# EAGLE library part MPC17529 (library AMH)
Dual h-bridge
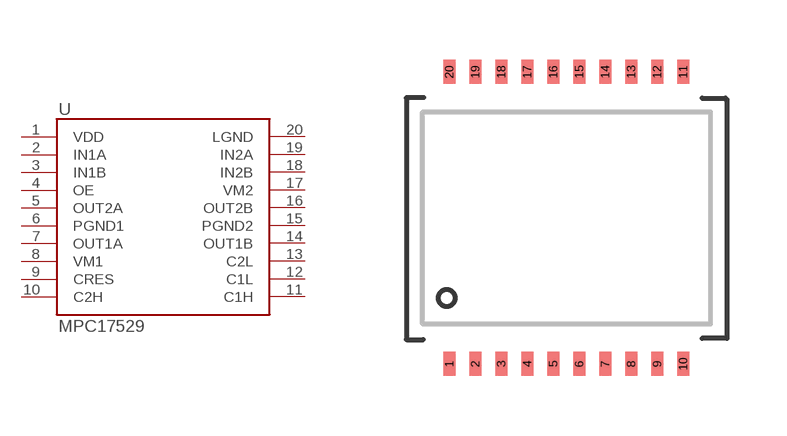
[diagram p0: symbol with the pads of 20-T_VMFP; footprint 20-T_VMFP]

Designator prefix -

## MPC17529  [20-T_VMFP]
1  VDD
2  IN1A
3  IN1B
4  OE
5  OUT2A
6  PGND1
7  OUT1A
8  VM1
9  CRES
10  C2H
11  C1H
12  C1L
13  C2L
14  OUT1B
15  PGND2
16  OUT2B
17  VM2
18  IN2B
19  IN2A
20  LGND

## Footprint 20-T_VMFP (pad centres in mm)
smd 0.3 x 0.6: 1 -2.925,-3.65; 2 -2.275,-3.65; 3 -1.625,-3.65; 4 -0.975,-3.65; 5 -0.325,-3.65; 6 0.325,-3.65; 7 0.975,-3.65; 8 1.625,-3.65; 9 2.275,-3.65; 10 2.925,-3.65; 11 2.925,3.65; 12 2.275,3.65; 13 1.625,3.65; 14 0.975,3.65; 15 0.325,3.65; 16 -0.325,3.65; 17 -0.975,3.65; 18 -1.625,3.65; 19 -2.275,3.65; 20 -2.925,3.65